# EAGLE library part HW-INFINEON_BTN8962TA (library BTN8982_Motor_Control_Shield_Rev_1.0)
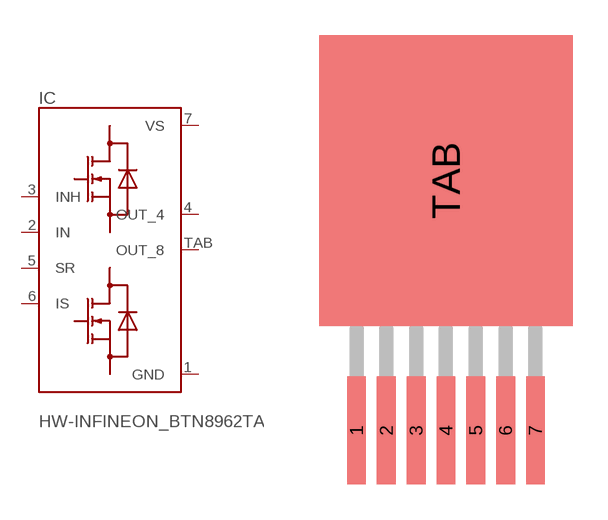
[diagram p0: symbol with the pads of HW-INFINEON_TO263-7-1; footprint HW-INFINEON_TO263-7-1]

Designator prefix IC

## HW-INFINEON_BTN8962TA  [HW-INFINEON_TO263-7-1]
1  GND  in
2  IN  in
3  INH
4  OUT_4  out
5  SR
6  IS
7  VS  pwr
TAB  OUT_8  out

## Footprint HW-INFINEON_TO263-7-1 (pad centres in mm)
smd 0.8 x 4.6: 1 -3.81,-9.15; 2 -2.54,-9.15; 3 -1.27,-9.15; 4 0,-9.15; 5 1.27,-9.15; 6 2.54,-9.15; 7 3.81,-9.15
smd 10.8 x 12.4: TAB 0,1.5